# Altium schematic symbol library MBRS130LT3G.SchLib: 1 symbol
Pins are listed as number, name and electrical type; pins without a type are passive.

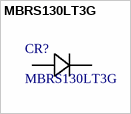
[diagram p0: symbol MBRS130LT3G]

## MBRS130LT3G
designator CR?
Description; Manufacturer_Name: onsemi; Copyright: Copyright (C) 2025 Ultra Librarian. All rights reserved.; Manufacturer_Part_Number: MBRS130LT3G
footprint DIODE_SMB_2L_ONS
pins: 1, 2